# Altium schematic symbol library AP7370-33Y.Schlib: 1 symbol
Pins are listed as number, name and electrical type; pins without a type are passive.

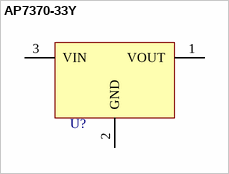
[diagram p0: symbol AP7370-33Y]

## AP7370-33Y
designator U?
18V input, 0.3Amp, 3.3V output Linear Voltage Regulator
pins: 1 VOUT (power), 2 GND (power), 3 VIN (power)